# EAGLE library part AP1509-50SG-13 (library Spark)
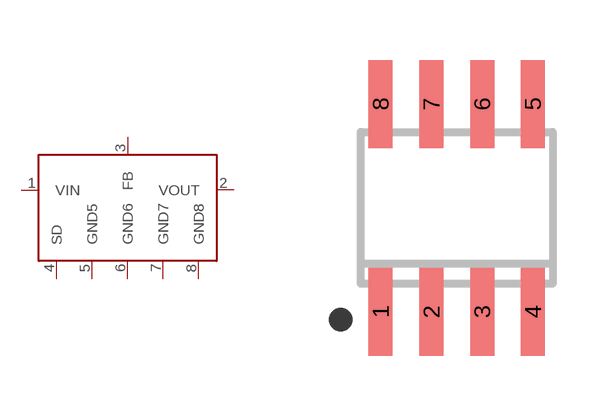
[diagram p9: symbol with the pads of SO08; footprint SO08]

Designator prefix -

## AP1509-50SG-13  [SO08]
1  VIN
2  VOUT
3  FB
4  SD
5  GND5
6  GND6
7  GND7
8  GND8

## Footprint SO08 (pad centres in mm)
SMALL OUTLINE INTEGRATED CIRCUIT body 3.9 mm/JEDEC MS-012AA
smd 0.6 x 2.2: 1 -1.905,-2.6; 2 -0.635,-2.6; 3 0.635,-2.6; 4 1.905,-2.6; 5 1.905,2.6; 6 0.635,2.6; 7 -0.635,2.6; 8 -1.905,2.6